# EAGLE library part LEVELSHIFT_8CH (library quadcopter_comp)
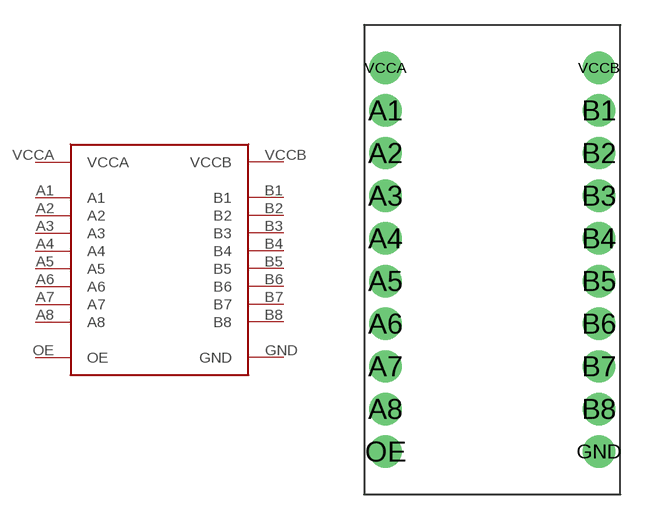
[diagram p1: symbol with the pads of LEVELSHIFT_8CH; footprint LEVELSHIFT_8CH]

Designator prefix -

## LEVELSHIFT_8CH  [LEVELSHIFT_8CH]
A1  A1
A2  A2
A3  A3
A4  A4
A5  A5
A6  A6
A7  A7
A8  A8
B1  B1
B2  B2
B3  B3
B4  B4
B5  B5
B6  B6
B7  B7
B8  B8
GND  GND
OE  OE
VCCA  VCCA
VCCB  VCCB

## Footprint LEVELSHIFT_8CH (pad centres in mm)
drill 1.1 pad 1.93: A1 -6.35,8.89; A2 -6.35,6.35; A3 -6.35,3.81; A4 -6.35,1.27; A5 -6.35,-1.27; A6 -6.35,-3.81; A7 -6.35,-6.35; A8 -6.35,-8.89; B1 6.35,8.89; B2 6.35,6.35; B3 6.35,3.81; B4 6.35,1.27; B5 6.35,-1.27; B6 6.35,-3.81; B7 6.35,-6.35; B8 6.35,-8.89; GND 6.35,-11.43; OE -6.35,-11.43; VCCA -6.35,11.43; VCCB 6.35,11.43